# EAGLE library part NHD-C0220BIZ-FSW-FBW-3V3M (library nhd-cog)
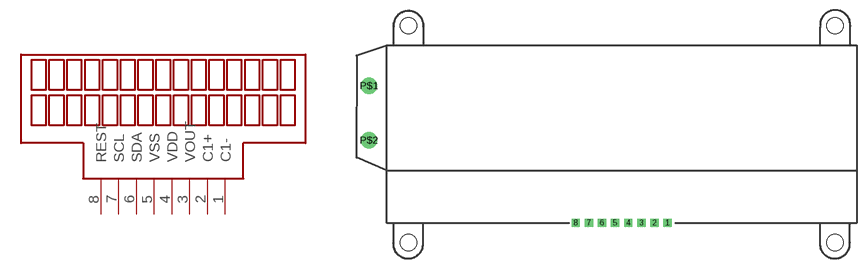
[diagram p1: symbol with the pads of SIL8-2.0; footprint SIL8-2.0]

Designator prefix -

## NHD-C0220BIZ-FSW-FBW-3V3M  [SIL8-2.0]
1  C1-
2  C1+
3  VOUT  out
4  VDD  pwr
5  VSS  pwr
6  SDA
7  SCL
8  REST

## Footprint SIL8-2.0 (pad centres in mm)
drill 0.7 pad 1.27 square: 1 7,0; 2 5,0; 3 3,0; 4 1,0; 5 -1,0; 6 -3,0; 7 -5,0; 8 -7,0
drill 1.5 pad 2.54 round: P$1 -38.508,20.912; P$2 -38.508,12.598
hole 2.5 at -32.5,-3
hole 2.5 at 32.5,-3
hole 2.5 at 32.5,30.1
hole 2.5 at -32.5,30.1